# EAGLE library part AFE4404 (library PJ24)
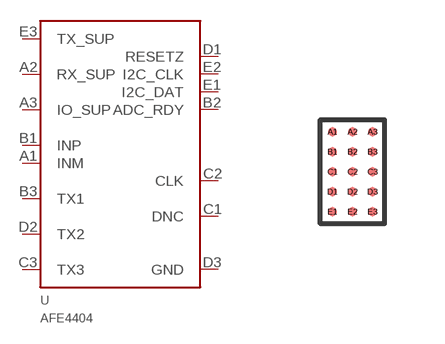
[diagram p0: symbol with the pads of DSBGA-3X5; footprint DSBGA-3X5]

Designator prefix -

## AFE4404  [DSBGA-3X5]
A1  INM
A2  RX_SUP
A3  IO_SUP
B1  INP
B2  ADC_RDY
B3  TX1
C1  DNC
C2  CLK
C3  TX3
D1  RESETZ
D2  TX2
D3  GND
E1  I2C_DAT
E2  I2C_CLK
E3  TX_SUP

## Footprint DSBGA-3X5 (pad centres in mm)
smd 0.23 x 0.23: A1 -0.5,1; A2 0,1; A3 0.5,1; B1 -0.5,0.5; B2 0,0.5; B3 0.5,0.5; C1 -0.5,0; C2 0,0; C3 0.5,0; D1 -0.5,-0.5; D2 0,-0.5; D3 0.5,-0.5; E1 -0.5,-1; E2 0,-1; E3 0.5,-1